# Altium footprint library ice.PcbLib: 25 footprints (part 2 of 2)
Each footprint in its own frame and in the unit in brackets; x right, y up, seen from the top. Pads: shape width x height; smd on the part's side, far side on the other; paste and mask are expansions set on the pad; w line width, h text height; cw(c..) or ccw(c..) is an arc to the next point about the centre after c.
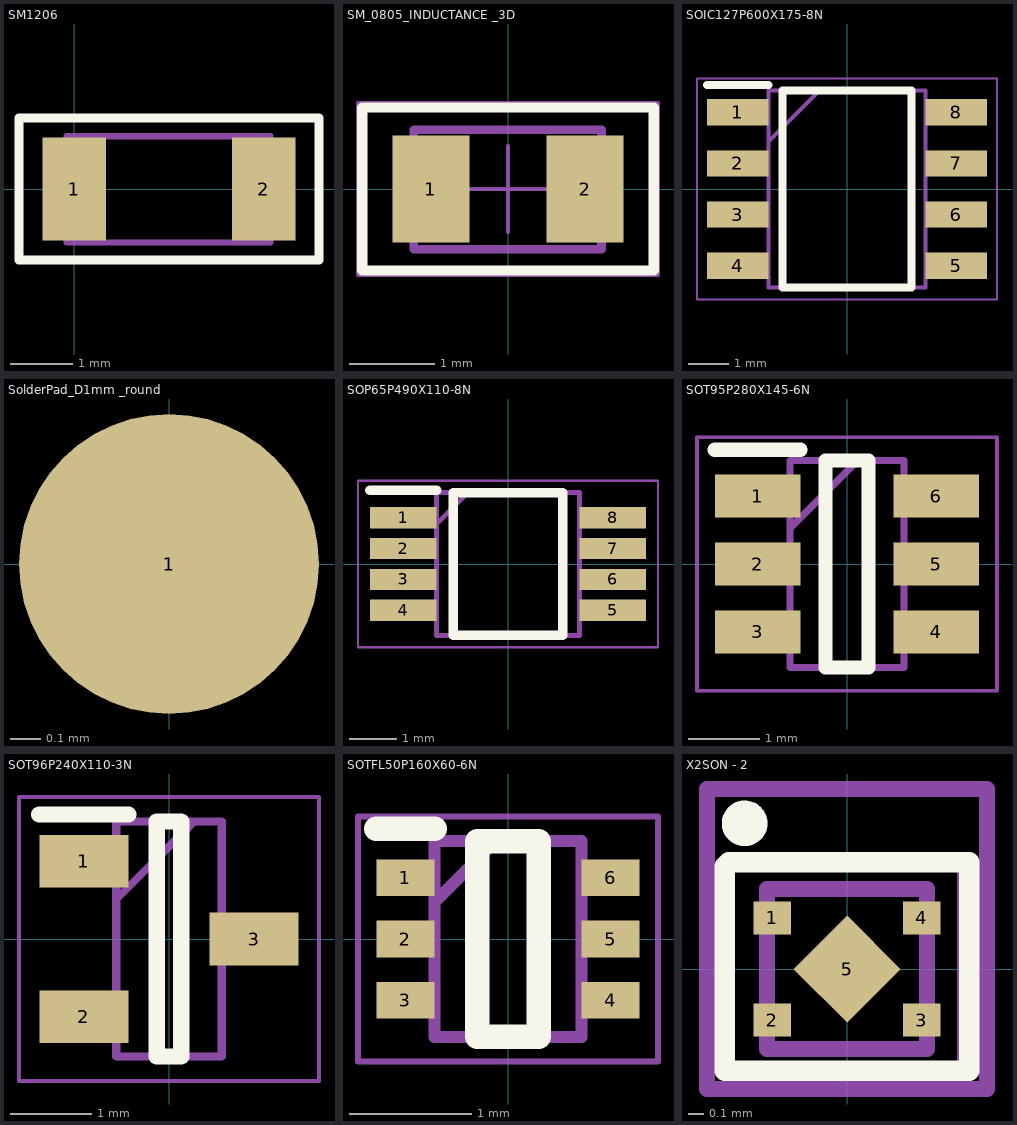
[diagram p1: the footprints below, top view; thin cyan lines are the x and y axes]

## SM1206 [mil]
height 47.24
pads (2):
  rect 40x65 smd: 1(0,0) 2(120,0)
Top Overlay:
  lines w5.91: -35,-45 -35,45 155,45 155,-45 -35,-45
Top Courtyard:
  lines w3.94: -35,-45 155,-45 155,45 -35,45 -35,-45
M13_3D_Outline:
  lines w3.94: -5,-33.9 -5,33.37 124.22,33.37 124.22,-33.9 -5,-33.9
Top Assembly:
  lines w3.94: -35,-45 155,-45 155,45 -35,45 -35,-45
  text ".Designator" at 50.91,-4.91 h27.56
3D body "RES_1206.STEP": height 24.02, standoff 0, extent -4.99,-33.5 125,33.51

## SM_0805_INDUCTANCE _3D [mm] "chip inductanse 0805 inch"
height 1.2
pads (2):
  rect 0.9x1.25 smd: 1(-0.9,0) 2(0.9,0)
Top Overlay:
  lines w0.12: -1.7,-0.95 1.7,-0.95 1.7,0.95 -1.7,0.95 -1.7,-0.95
Top Courtyard:
  lines w0.05: -0.5,0 0.5,0 ; 0,-0.5 0,0.5 ; -1.75,-1 1.75,-1 1.75,1 -1.75,1 -1.75,-1
M13_3D_Outline:
  lines w0.1: -1.102,-0.703 1.091,-0.703 1.091,0.691 -1.102,0.691 -1.102,-0.703
Mechanical 14:
  lines w0.1: -1.7,-0.95 1.7,-0.95 1.7,0.95 -1.7,0.95 -1.7,-0.95
Top Assembly:
  lines w0.05: -0.5,0 0.5,0 ; 0,-0.5 0,0.5 ; -1.75,-1 1.75,-1 1.75,1 -1.75,1 -1.75,-1
  text ".Designator" at -0.104,0.002 h0.7
3D body "INDC2012X110N.stp": height 1.1, standoff 0, extent -1.1,-0.7 1.1,0.7

## SOIC127P600X175-8N [mm]
height 1.2
pads (8):
  rect 1.525x0.65 smd: 1(-2.712,1.905) 2(-2.712,0.635) 3(-2.712,-0.635) 4(-2.712,-1.905) 5(2.712,-1.905) 6(2.712,-0.635) 7(2.712,0.635) 8(2.712,1.905)
Top Overlay:
  lines w0.2: -3.475,2.58 -1.95,2.58 ; -1.6,-2.45 -1.6,2.45 1.6,2.45 1.6,-2.45 -1.6,-2.45
Top Courtyard:
  lines w0.05: -3.725,-2.75 3.725,-2.75 3.725,2.75 -3.725,2.75 -3.725,-2.75
M13_3D_Outline:
  lines w0.1: -1.95,1.18 -0.68,2.45 ; -1.95,-2.45 -1.95,2.45 1.95,2.45 1.95,-2.45 -1.95,-2.45
Top Assembly:
  lines w0.05: -3.725,-2.75 -3.725,2.75 3.725,2.75 3.725,-2.75 -3.725,-2.75
  text ".Designator" at -0.104,0.002 h0.7
3D body "NE555DR.stp": height 1.75, standoff 0, extent -3,-2.45 3,2.45

## SolderPad_D1mm _round [mm] "7mm solder circle for finger touch"
pads (1):
  round 1 smd: 1(0,0)

## SOP65P490X110-8N [mm]
height 1.2
pads (8):
  rect 1.4x0.45 smd: 1(-2.2,0.975) 2(-2.2,0.325) 3(-2.2,-0.325) 4(-2.2,-0.975) 5(2.2,-0.975) 6(2.2,-0.325) 7(2.2,0.325) 8(2.2,0.975)
Top Overlay:
  lines w0.2: -2.9,1.55 -1.5,1.55 ; -1.15,-1.5 1.15,-1.5 1.15,1.5 -1.15,1.5 -1.15,-1.5
Top Courtyard:
  lines w0.05: -3.15,-1.75 3.15,-1.75 3.15,1.75 -3.15,1.75 -3.15,-1.75
M13_3D_Outline:
  lines w0.1: -1.5,0.85 -0.85,1.5 ; -1.5,-1.5 1.5,-1.5 1.5,1.5 -1.5,1.5 -1.5,-1.5
Top Assembly:
  lines w0.05: -3.15,-1.75 3.15,-1.75 3.15,1.75 -3.15,1.75 -3.15,-1.75
  text ".Designator" at -0.104,0.002 h0.7
3D body "MCP4812-E_MS.stp": height 1.1, standoff 0, extent -2.45,-1.5 2.45,1.5

## SOT95P280X145-6N [mm]
height 1.2
pads (6):
  rect 1.2x0.6 smd: 1(-1.25,0.95) 2(-1.25,0) 3(-1.25,-0.95) 4(1.25,-0.95) 5(1.25,0) 6(1.25,0.95)
Top Overlay:
  lines w0.2: -1.85,1.6 -0.65,1.6 ; -0.3,-1.45 -0.3,1.45 0.3,1.45 0.3,-1.45 -0.3,-1.45
M13_3D_Outline:
  lines w0.1: -0.8,0.5 0.15,1.45 ; -0.8,-1.45 -0.8,1.45 0.8,1.45 0.8,-1.45 -0.8,-1.45
Top Assembly:
  lines w0.05: -2.1,-1.775 -2.1,1.775 ; -2.1,-1.775 2.1,-1.775 ; -2.1,-1.775 -2.1,1.775 ; -2.1,-1.775 2.1,-1.775 ; -2.1,1.775 2.1,1.775 ; -2.1,1.775 2.1,1.775 ; 2.1,-1.775 2.1,1.775 ; 2.1,-1.775 2.1,1.775
  text ".Designator" at -0.104,0.002 h0.7
3D body "SN74LVC2G17DBVR.stp": height 1.45, standoff 0, extent -1.4,-1.45 1.4,1.45

## SOT96P240X110-3N [mm]
height 1.2
pads (3):
  rect 1.1x0.65 smd: 1(-1.05,0.96) 2(-1.05,-0.96) 3(1.05,0)
Top Overlay:
  lines w0.2: -1.6,1.535 -0.5,1.535 ; -0.15,-1.45 -0.15,1.45 0.15,1.45 0.15,-1.45 -0.15,-1.45
Top Courtyard:
  lines w0.05: -1.85,-1.75 1.85,-1.75 1.85,1.75 -1.85,1.75 -1.85,-1.75
M13_3D_Outline:
  lines w0.1: -0.65,0.49 0.31,1.45 ; -0.65,-1.45 -0.65,1.45 0.65,1.45 0.65,-1.45 -0.65,-1.45
Top Assembly:
  lines w0.05: -1.85,-1.75 -1.85,1.75 1.85,1.75 1.85,-1.75 -1.85,-1.75
  text ".Designator" at -0.104,0.002 h0.7
3D body "MMBD7000HS-7-F.stp": height 1.1, standoff 0, extent -1.2,-1.45 1.2,1.45

## SOTFL50P160X60-6N [mm]
height 1.2
pads (6):
  rect 0.475x0.3 smd: 1(-0.838,0.5) 2(-0.838,0) 3(-0.838,-0.5) 4(0.838,-0.5) 5(0.838,0) 6(0.838,0.5)
Top Overlay:
  lines w0.2: -1.075,0.9 -0.6,0.9 ; -0.25,-0.8 -0.25,0.8 0.25,0.8 0.25,-0.8 -0.25,-0.8
Top Courtyard:
  lines w0.05: -1.225,-1 -1.225,1 1.225,1 1.225,-1 -1.225,-1
M13_3D_Outline:
  lines w0.1: -0.6,0.3 -0.1,0.8 ; -0.6,-0.8 -0.6,0.8 0.6,0.8 0.6,-0.8 -0.6,-0.8
Top Assembly:
  lines w0.05: -1.225,-1 -1.225,1 1.225,1 1.225,-1 -1.225,-1
  text ".Designator" at -0.104,-0.125 h0.7
3D body "TMP112AIDRLR.stp": height 0.6, standoff 0, extent -0.8,-0.8 0.8,0.8

## X2SON - 2 [mm] "DQN, X2SON"
height 0.4
pads (5):
  rect 0.24x0.21 smd paste+0 mask+0.08: 1(-0.475,0.325) 2(-0.475,-0.325) 3(0.475,-0.325) 4(0.475,0.325)
  rect 0.48x0.48 smd rot 45 mask+0.075: 5(0,0)
Top Overlay:
  lines w0.13: -0.775,-0.646 -0.775,0.654 -0.75,0.679 0.775,0.679 0.775,-0.621 ; -0.75,-0.646 0.775,-0.646
  lines w0.15: -0.635,0.857 cw(c-0.65,0.925) -0.626,0.859
Top Courtyard:
  lines w0.1: -0.889,-0.762 -0.889,1.143 0.889,1.143 0.889,-0.762 -0.889,-0.762
M13_3D_Outline:
  lines w0.1: -0.508,-0.508 -0.508,0.508 0.508,0.508 0.508,-0.508 -0.508,-0.508
Top Assembly:
  lines w0.05: -0.75,-0.621 0.725,-0.621 0.725,0.679 -0.75,0.679 -0.75,-0.621
  text ".Designator" at -0.104,-0.125 h0.7
3D body "DQN0004A.stp": height 0.37, standoff 0.01, extent -0.5,-0.5 0.5,0.5